# Altium footprint library Comp_PCB.PcbLib: 22 footprints (part 1 of 2)
Each footprint in its own frame and in the unit in brackets; x right, y up, seen from the top. Pads: shape width x height; smd on the part's side, far side on the other; paste and mask are expansions set on the pad; w line width, h text height; cw(c..) or ccw(c..) is an arc to the next point about the centre after c.
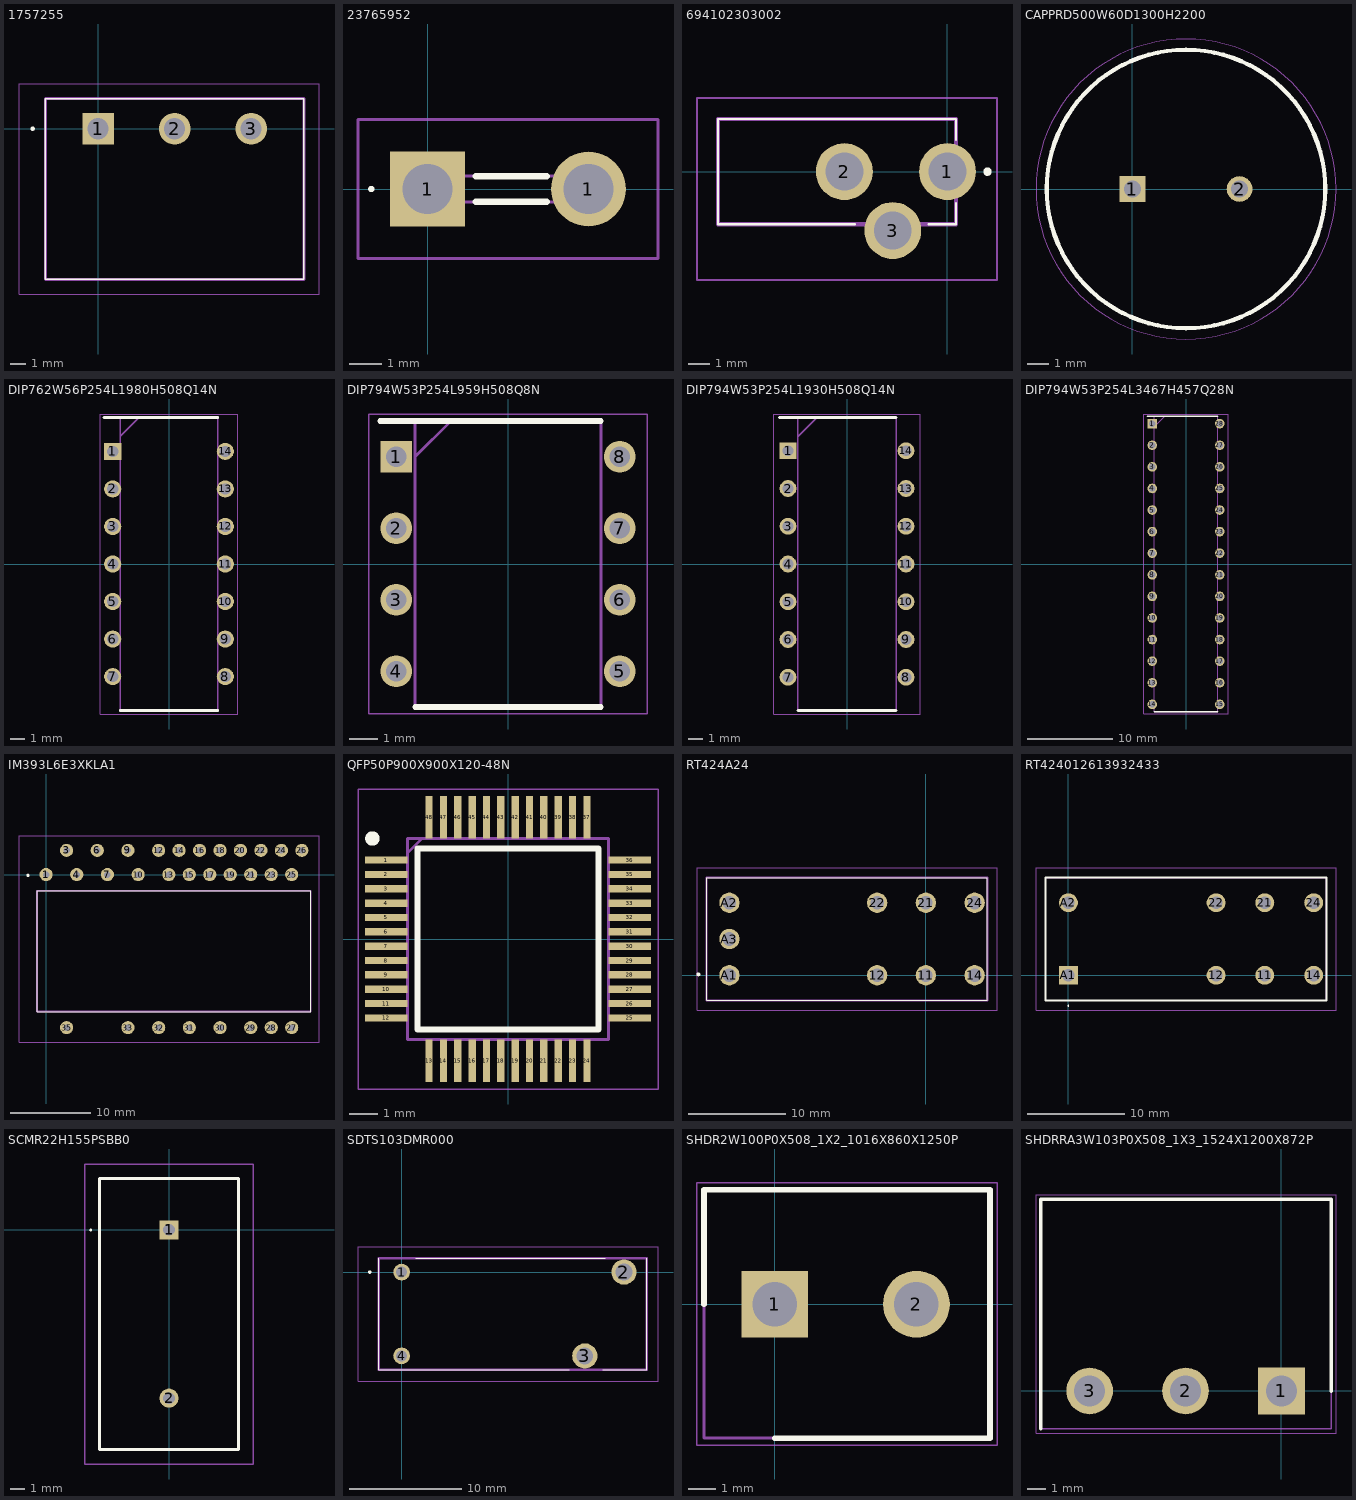
[diagram p0: the footprints below, top view; thin cyan lines are the x and y axes]

## 1757255 [mm]
pads (3):
  rect 2.1x2.1 hole 1.4: 1(0,0)
  round 2.1 hole 1.4: 2(5.08,0) 3(10.16,0)
Top Overlay:
  circle w0.2: c-4.35,0 r0.05
  lines w0.1: -3.5,-10 -3.5,2 13.66,2 13.66,-10 -3.5,-10
Mechanical 13:
  lines w0.2: -3.5,-10 -3.5,2 13.66,2 13.66,-10 -3.5,-10
Mechanical 15:
  lines w0.05: -5.25,-11 -5.25,3 14.66,3 14.66,-11 -5.25,-11
3D body "1757255.stp": height 8.5, standoff -8.5, extent -6,-8.13 6,4.3

## 23765952 [mm]
pads (2):
  rect 2.325x2.325 hole 1.55: 1(0,0)
  round 2.325 hole 1.55: 1(5,0)
Top Overlay:
  lines w0.1: -1.8,0 cw(c-1.75,0) -1.7,0 cw(c-1.75,0) -1.8,0
  lines w0.2: 1.5,-0.4 3.7,-0.4 ; 1.5,0.4 3.7,0.4
Mechanical 13:
  lines w0.1: -0.65,-0.4 -0.65,0.4 5.65,0.4 5.65,-0.4 -0.65,-0.4
Mechanical 15:
  lines w0.1: -2.163,-2.163 -2.163,2.163 7.162,2.163 7.162,-2.163 -2.163,-2.163
3D body "2376595-2.stp": height 10.75, standoff -5, extent -0.67,-0.674 5.675,0.674

## 694102303002 [mm]
pads (3):
  round 2.704 hole 1.803: 1(0,0) 2(-4.9,0) 3(-2.6,-2.8)
Top Overlay:
  lines w0.1: -4.4,-2.5 -10.9,-2.5 -10.9,2.5 0.4,2.5 0.4,1.5 ; -0.9,-2.5 0.4,-2.5 0.4,-1.5
  lines w0.2: 1.9,-0.1 ccw(c1.9,0) 1.9,0.1 ccw(c1.9,0) 1.9,-0.1
Mechanical 13:
  lines w0.2: -10.9,-2.5 -10.9,2.5 0.4,2.5 0.4,-2.5 -10.9,-2.5
Mechanical 15:
  lines w0.1: -11.9,-5.152 -11.9,3.5 2.352,3.5 2.352,-5.152 -11.9,-5.152
3D body "694102303002.stp": height 7.7, standoff -5, extent -10.9,-3.6 0.801,2.5

## CAPPRD500W60D1300H2200 [mm]
pads (2):
  rect 1.2x1.2 hole 0.8: 1(0,0)
  round 1.2 hole 0.8: 2(5,0)
Top Overlay:
  circle w0.2: c2.5,0 r6.5
Mechanical 13:
  circle w0.1: c2.5,0 r6.5
Mechanical 15:
  circle w0.05: c2.5,0 r7
3D body "MAL223051014E3.stp": height 22, standoff -10, extent -4,-6.5 9,6.5

## DIP762W56P254L1980H508Q14N [mm]
pads (14):
  rect 1.16x1.16 hole 0.76: 1(-3.81,7.62)
  round 1.16 hole 0.76: 2(-3.81,5.08) 3(-3.81,2.54) 4(-3.81,0) 5(-3.81,-2.54) 6(-3.81,-5.08) 7(-3.81,-7.62) 8(3.81,-7.62) 9(3.81,-5.08) 10(3.81,-2.54) 11(3.81,0) 12(3.81,2.54) 13(3.81,5.08) 14(3.81,7.62)
Top Overlay:
  lines w0.2: -4.39,9.9 3.3,9.9 ; -3.3,-9.9 3.3,-9.9
Mechanical 13:
  lines w0.1: -3.3,8.63 -2.03,9.9 ; -3.3,-9.9 3.3,-9.9 3.3,9.9 -3.3,9.9 -3.3,-9.9
Mechanical 15:
  lines w0.05: -4.64,-10.15 4.64,-10.15 4.64,10.15 -4.64,10.15 -4.64,-10.15
3D body "LM348N.stp": height 5.08, standoff -3.5, extent -3.95,-9.9 3.95,9.9

## DIP794W53P254L959H508Q8N [mm]
pads (8):
  rect 1.13x1.13 hole 0.73: 1(-3.97,3.81)
  round 1.13 hole 0.73: 2(-3.97,1.27) 3(-3.97,-1.27) 4(-3.97,-3.81) 5(3.97,-3.81) 6(3.97,-1.27) 7(3.97,1.27) 8(3.97,3.81)
Top Overlay:
  lines w0.2: -4.535,5.08 3.3,5.08 ; -3.3,-5.08 3.3,-5.08
Mechanical 13:
  lines w0.1: -3.3,3.81 -2.03,5.08 ; -3.3,-5.08 3.3,-5.08 3.3,5.08 -3.3,5.08 -3.3,-5.08
Mechanical 15:
  lines w0.05: -4.945,-5.33 4.945,-5.33 4.945,5.33 -4.945,5.33 -4.945,-5.33
3D body "OPA445AP.stp": height 4.21, standoff -3.37, extent -4.102,-4.635 4.102,4.635

## DIP794W53P254L1930H508Q14N [mm]
pads (14):
  rect 1.13x1.13 hole 0.73: 1(-3.97,7.62)
  round 1.13 hole 0.73: 2(-3.97,5.08) 3(-3.97,2.54) 4(-3.97,0) 5(-3.97,-2.54) 6(-3.97,-5.08) 7(-3.97,-7.62) 8(3.97,-7.62) 9(3.97,-5.08) 10(3.97,-2.54) 11(3.97,0) 12(3.97,2.54) 13(3.97,5.08) 14(3.97,7.62)
Top Overlay:
  lines w0.2: -4.535,9.845 3.3,9.845 ; -3.3,-9.845 3.3,-9.845
Mechanical 13:
  lines w0.1: -3.3,8.575 -2.03,9.845 ; -3.3,-9.845 -3.3,9.845 3.3,9.845 3.3,-9.845 -3.3,-9.845
Mechanical 15:
  lines w0.05: -4.945,-10.095 -4.945,10.095 4.945,10.095 4.945,-10.095 -4.945,-10.095
3D body "SN74LS21N.stp": height 9.84, standoff -9.84, extent -3.937,-5.601 3.937,2.769

## DIP794W53P254L3467H457Q28N [mm]
pads (28):
  rect 1.133x1.133 hole 0.733: 1(-3.969,16.51)
  round 1.133 hole 0.733: 2(-3.969,13.97) 3(-3.969,11.43) 4(-3.969,8.89) 5(-3.969,6.35) 6(-3.969,3.81) 7(-3.969,1.27) 8(-3.969,-1.27) 9(-3.969,-3.81) 10(-3.969,-6.35) 11(-3.969,-8.89) 12(-3.969,-11.43) 13(-3.969,-13.97) 14(-3.969,-16.51) 15(3.969,-16.51) 16(3.969,-13.97) 17(3.969,-11.43) 18(3.969,-8.89) 19(3.969,-6.35) 20(3.969,-3.81) 21(3.969,-1.27) 22(3.969,1.27) 23(3.969,3.81) 24(3.969,6.35) 25(3.969,8.89) 26(3.969,11.43) 27(3.969,13.97) 28(3.969,16.51)
Top Overlay:
  lines w0.2: -4.535,17.399 3.746,17.399 ; -3.746,-17.399 3.746,-17.399
Mechanical 13:
  lines w0.1: -3.746,16.129 -2.476,17.399 ; -3.746,-17.399 3.746,-17.399 3.746,17.399 -3.746,17.399 -3.746,-17.399
Mechanical 15:
  lines w0.05: -4.944,-17.649 4.944,-17.649 4.944,17.649 -4.944,17.649 -4.944,-17.649
3D body "ATMEGA328P-PU.stp": height 4.57, standoff -3.5, extent -4.102,-17.335 4.102,17.336

## IM393L6E3XKLA1 [mm]
pads (30):
  round 1.635 hole 0.8: 1(0,0) 3(2.54,3) 4(3.81,0) 6(6.35,3) 7(7.62,0) 9(10.16,3) 10(11.43,0) 12(13.97,3) 13(15.24,0) 14(16.51,3) 15(17.78,0) 16(19.05,3) 17(20.32,0) 18(21.59,3) 19(22.86,0) 20(24.13,3) 21(25.4,0) 22(26.67,3) 23(27.94,0) 24(29.21,3) 25(30.48,0) 26(31.75,3) 27(30.485,-19) 28(27.945,-19) 29(25.405,-19) 30(21.595,-19) 31(17.785,-19) 32(13.975,-19) 33(10.165,-19) 35(2.545,-19)
Top Overlay:
  lines w0.1: -1.125,-17 32.875,-17 32.875,-2 -1.125,-2 -1.125,-17
  lines w0.2: -2.36,-0.1 ccw(c-2.26,-0.1) -2.16,-0.1 ccw(c-2.26,-0.1) -2.36,-0.1
Mechanical 13:
  lines w0.2: -1.125,-17 32.875,-17 32.875,-2 -1.125,-2 -1.125,-17
Mechanical 15:
  lines w0.1: -3.36,-20.818 33.875,-20.818 33.875,4.818 -3.36,4.818 -3.36,-20.818
3D body "IM393L6E3XKLA1.stp": height 4.7, standoff -5, extent -1.125,-19.299 32.875,3.299

## QFP50P900X900X120-48N [mm]
pads (48):
  rect 1.475x0.254 smd: 1(-4.238,2.75) 2(-4.238,2.25) 3(-4.238,1.75) 4(-4.238,1.25) 5(-4.238,0.75) 6(-4.238,0.25) 7(-4.238,-0.25) 8(-4.238,-0.75) 9(-4.238,-1.25) 10(-4.238,-1.75) 11(-4.238,-2.25) 12(-4.238,-2.75) 25(4.238,-2.75) 26(4.238,-2.25) 27(4.238,-1.75) 28(4.238,-1.25) 29(4.238,-0.75) 30(4.238,-0.25) 31(4.238,0.25) 32(4.238,0.75) 33(4.238,1.25) 34(4.238,1.75) 35(4.238,2.25) 36(4.238,2.75)
  rect 0.254x1.475 smd: 13(-2.75,-4.238) 14(-2.25,-4.238) 15(-1.75,-4.238) 16(-1.25,-4.238) 17(-0.75,-4.238) 18(-0.25,-4.238) 19(0.25,-4.238) 20(0.75,-4.238) 21(1.25,-4.238) 22(1.75,-4.238) 23(2.25,-4.238) 24(2.75,-4.238) 37(2.75,4.238) 38(2.25,4.238) 39(1.75,4.238) 40(1.25,4.238) 41(0.75,4.238) 42(0.25,4.238) 43(-0.25,4.238) 44(-0.75,4.238) 45(-1.25,4.238) 46(-1.75,4.238) 47(-2.25,4.238) 48(-2.75,4.238)
Top Overlay:
  circle w0.25: c-4.725,3.5 r0.125
  lines w0.2: -3.15,-3.15 3.15,-3.15 3.15,3.15 -3.15,3.15 -3.15,-3.15
Mechanical 13:
  lines w0.1: -3.5,3 -3,3.5 ; -3.5,-3.5 3.5,-3.5 3.5,3.5 -3.5,3.5 -3.5,-3.5
Mechanical 15:
  lines w0.05: -5.225,-5.225 5.225,-5.225 5.225,5.225 -5.225,5.225 -5.225,-5.225
3D body "BQ7694201PFBR.stp": height 1.2, standoff 0, extent -4.5,-4.5 4.5,4.5

## RT424A24 [mm]
pads (9):
  round 2.1 hole 1.4: 11(0,0) 12(-5.04,0) 14(5.04,0) 21(0,7.5) 22(-5.04,7.5) 24(5.04,7.5) A1(-20.3,0) A2(-20.3,7.5) A3(-20.3,3.75)
Top Overlay:
  lines w0.1: -22.65,-2.6 -22.65,10.1 6.35,10.1 6.35,-2.6 -22.65,-2.6
  lines w0.2: -23.6,0.1 cw(c-23.5,0.1) -23.4,0.1 cw(c-23.5,0.1) -23.6,0.1
Mechanical 13:
  lines w0.2: -22.65,-2.6 -22.65,10.1 6.35,10.1 6.35,-2.6 -22.65,-2.6
Mechanical 15:
  lines w0.1: -23.65,-3.6 -23.65,11.1 7.35,11.1 7.35,-3.6 -23.65,-3.6
3D body "RT424A24.stp": height 15.8, standoff -5, extent -22.65,-2.6 6.35,10.1

## RT424012613932433 [mm]
pads (8):
  round 1.95 hole 1.3: 11(20.3,0) 12(15.26,0) 14(25.34,0) 21(20.3,7.5) 22(15.26,7.5) 24(25.34,7.5) A2(0,7.5)
  rect 1.95x1.95 hole 1.3: A1(0,0)
Top Overlay:
  lines w0.1: 0,-3.2 ccw(c0,-3.15) 0,-3.1 ccw(c0,-3.15) 0,-3.2
  lines w0.2: -2.35,-2.6 26.65,-2.6 26.65,10.1 -2.35,10.1 -2.35,-2.6
Mechanical 13:
  lines w0.1: -2.35,-2.6 26.65,-2.6 26.65,10.1 -2.35,10.1 -2.35,-2.6
Mechanical 15:
  lines w0.1: -3.35,-3.6 27.65,-3.6 27.65,11.1 -3.35,11.1 -3.35,-3.6
3D body "RT424012_6-1393243-3.stp": height 15.8, standoff -5, extent -2.35,-2.6 26.65,10.1

## SCMR22H155PSBB0 [mm]
pads (2):
  rect 1.3x1.3 hole 0.8: 1(0,0)
  round 1.3 hole 0.8: 2(0,-11.5)
Top Overlay:
  lines w0.1: -5.4,0 ccw(c-5.35,0) -5.3,0 ccw(c-5.35,0) -5.4,0
  lines w0.2: -4.75,-15 4.75,-15 4.75,3.5 -4.75,3.5 -4.75,-15
Mechanical 13:
  lines w0.1: -4.75,-15 4.75,-15 4.75,3.5 -4.75,3.5 -4.75,-15
Mechanical 15:
  lines w0.1: -5.75,-16 5.75,-16 5.75,4.5 -5.75,4.5 -5.75,-16
3D body "SCMR22H155PSBB0.stp": height 26.1, standoff -5, extent -4.75,-15 4.75,3.5

## SDTS103DMR000 [mm]
pads (4):
  round 1.5 hole 1: 1(0,0) 4(0,-7.5)
  round 2.25 hole 1.5: 2(19.9,0) 3(16.4,-7.5)
Top Overlay:
  lines w0.1: -2.05,-8.75 -2.05,1.25 -2.05,-8.75 ; -2.05,-8.75 15,-8.75 -2.05,-8.75 ; 21.95,-8.75 21.95,1.25 21.95,-8.75 ; 21.95,-8.75 18,-8.75 21.95,-8.75 ; 1.25,1.25 18.25,1.25 1.25,1.25
  lines w0.2: -2.9,0 ccw(c-2.85,0) -2.8,0 ; -2.9,0 cw(c-2.85,0) -2.8,0 ; -2.9,0 ccw(c-2.85,0) -2.8,0
Mechanical 13:
  lines w0.2: -2.05,-8.75 -2.05,1.25 21.95,1.25 21.95,-8.75 -2.05,-8.75
Mechanical 15:
  lines w0.1: -3.9,-9.75 -3.9,2.25 22.95,2.25 22.95,-9.75 -3.9,-9.75
3D body "SDT-S-103DMR,000.stp": height 25.6, standoff -5, extent -2.05,-8.75 21.95,1.25

## SHDR2W100P0X508_1X2_1016X860X1250P [mm]
pads (2):
  rect 2.4x2.4 hole 1.6: 1(0,0)
  round 2.4 hole 1.6: 2(5.08,0)
Top Overlay:
  lines w0.2: -2.54,0 -2.54,4.1 7.72,4.1 7.72,-4.8 0,-4.8
Mechanical 13:
  lines w0.1: -2.54,-4.8 -2.54,4.1 7.72,4.1 7.72,-4.8 -2.54,-4.8
Mechanical 15:
  lines w0.05: -2.79,-5.05 -2.79,4.35 7.97,4.35 7.97,-5.05 -2.79,-5.05
3D body "OQ025A000000G.stp": height 12.5, standoff -2.9, extent -2.54,-4.8 7.62,3.8

## SHDRRA3W103P0X508_1X3_1524X1200X872P [mm]
pads (3):
  rect 2.475x2.475 hole 1.65: 1(0,0)
  round 2.475 hole 1.65: 2(-5.08,0) 3(-10.16,0)
Top Overlay:
  lines w0.2: -12.75,-2 -12.75,10.15 2.64,10.15 2.64,0
Mechanical 13:
  lines w0.1: -12.75,-2 2.64,-2 2.64,10.15 -12.75,10.15 -12.75,-2
Mechanical 15:
  lines w0.05: -13,-2.25 2.89,-2.25 2.89,10.4 -13,10.4 -13,-2.25
3D body "1759020.stp": height 8.72, standoff -3.7, extent -12.7,-2 2.54,10